# Altium schematic symbol library MP9486AGN-Z.SchLib: 2 symbols
Pins are listed as number, name and electrical type; pins without a type are passive.

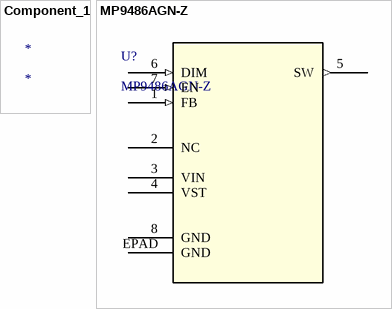
[diagram p0: symbols Component_1 to MP9486AGN-Z]

## Component_1
designator *

## MP9486AGN-Z
designator U?
No Description Available; Mfr_Name: Monolithic Power Systems; Copyright: Copyright (C) 2023 Ultra Librarian. All rights reserved.; Manufacturer_Part_Number: MP9486AGN-Z; RefDes: RefDes; Type: DEV
footprint SOIC-8_EP_MNP
pins: 1 FB (in), 2 NC, 3 VIN (power), 4 VST (power), 5 SW (out), 6 DIM (in), 7 EN (in), 8 GND, EPAD GND